# EAGLE library part 5CHW (library inductor-toko)
HELICAL FILTER 5MM TOKO 5CHW Series
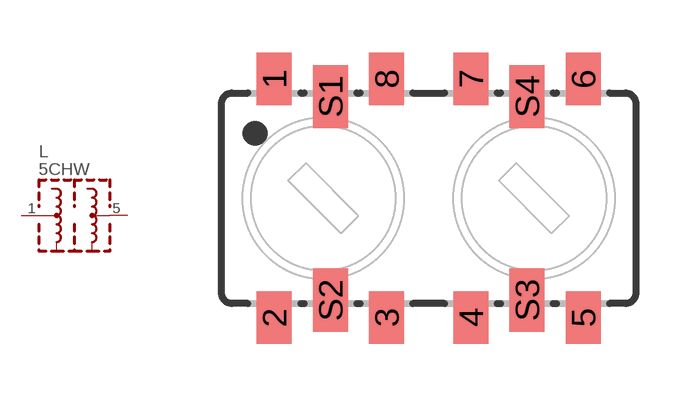
[diagram p1: symbol with the pads of 5CHW; footprint 5CHW]

Designator prefix L

## 5CHW  [5CHW]
1  IN  pas
2  2  pas
3  3  pas
4  4  pas
5  OUT  pas
6  6  pas
7  7  pas
8  8  pas
S1  S1  pas
S2  S2  pas
S3  S3  pas
S4  S4  pas

## Footprint 5CHW (pad centres in mm)
5MM HELICAL FILTER TOKO 5CHW
smd 1 x 1.5: 1 -4.4,3.4; 2 -4.4,-3.4; 3 -1.2,-3.4; 4 1.2,-3.4; 5 4.4,-3.4; 6 4.4,3.4; 7 1.2,3.4; 8 -1.2,3.4
smd 1 x 1.8: S1 -2.8,2.9; S2 -2.8,-2.9; S3 2.8,-2.9; S4 2.8,2.9